# Altium footprint library 载板20220818.PcbLib: 53 footprints (part 2 of 4)
Each footprint in its own frame and in the unit in brackets; x right, y up, seen from the top. Pads: shape width x height; smd on the part's side, far side on the other; paste and mask are expansions set on the pad; w line width, h text height; cw(c..) or ccw(c..) is an arc to the next point about the centre after c.
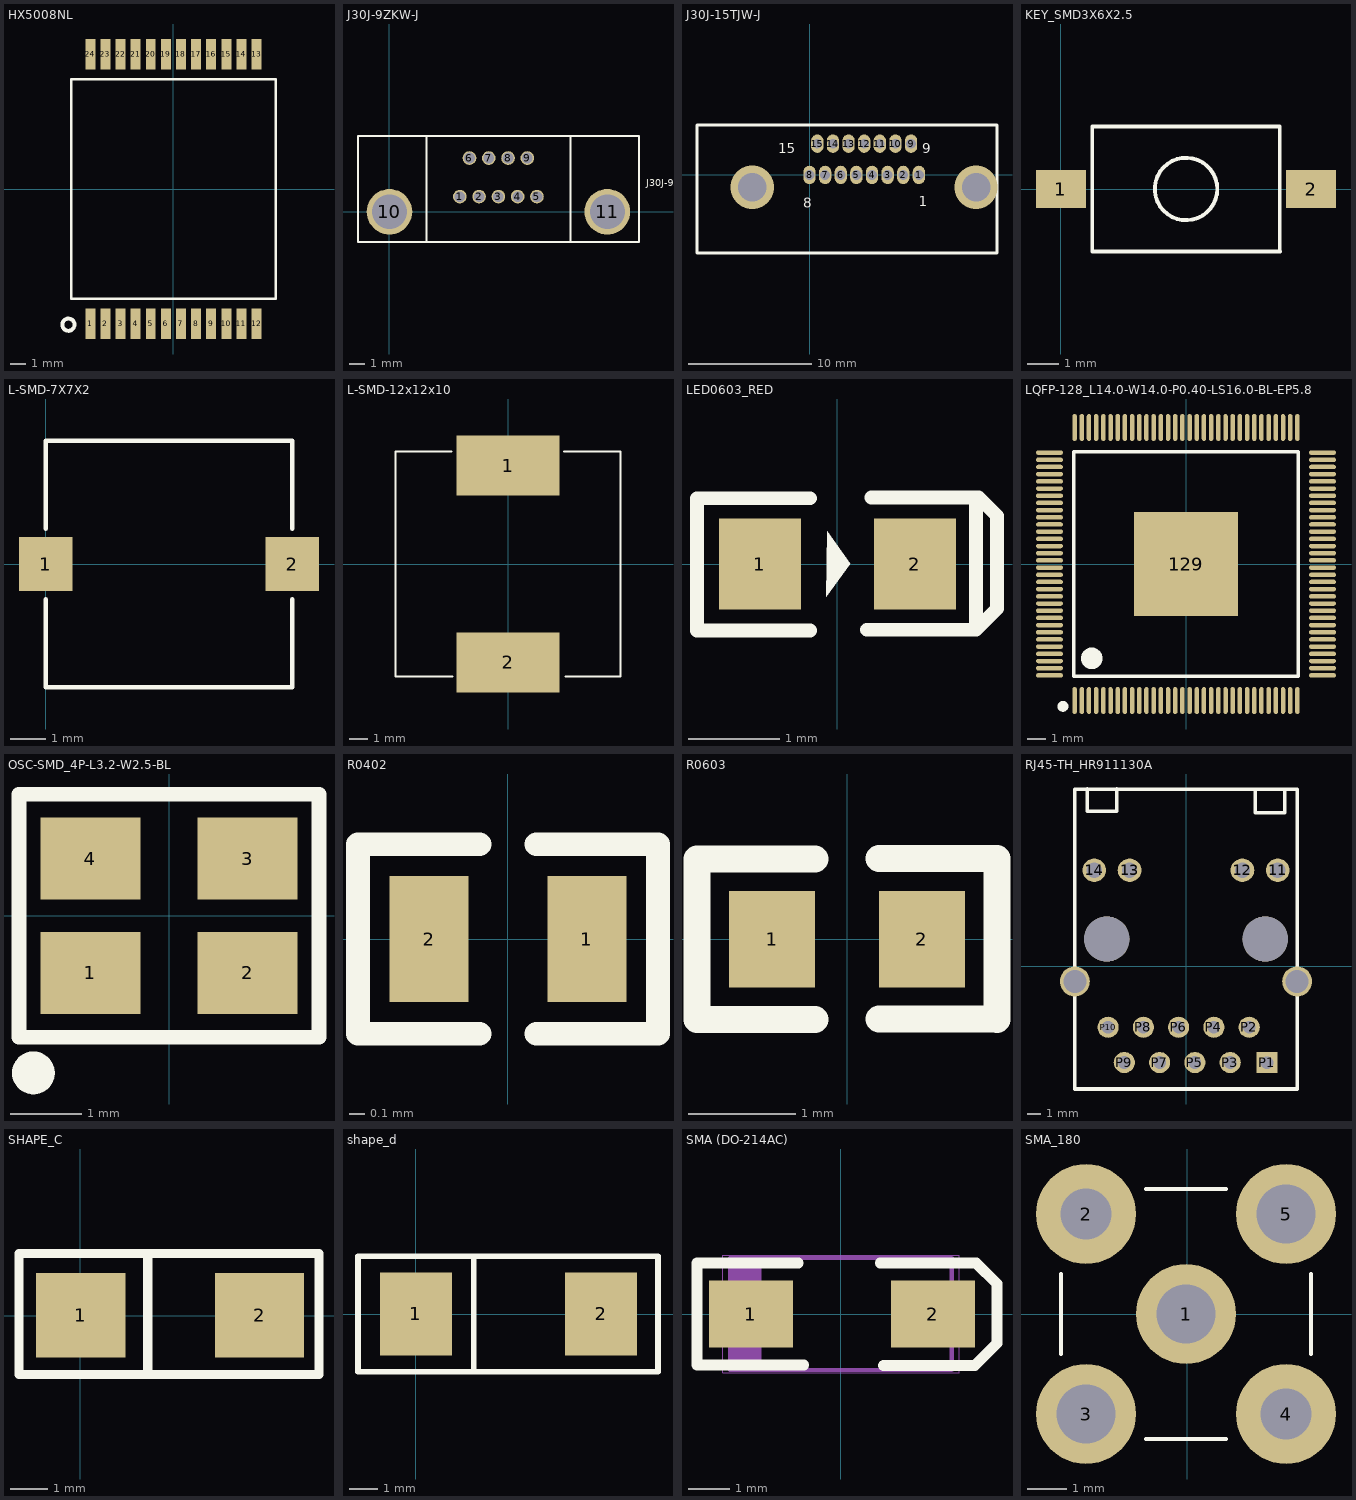
[diagram p1: the footprints below, top view; thin cyan lines are the x and y axes]

## HX5008NL [mm]
height 6
pads (24):
  rect 0.65x2 smd: 1(-5.445,-8.827) 2(-4.455,-8.827) 3(-3.465,-8.827) 4(-2.475,-8.827) 5(-1.485,-8.827) 6(-0.495,-8.827) 7(0.495,-8.827) 8(1.485,-8.827) 9(2.475,-8.827) 10(3.465,-8.827) 11(4.455,-8.827) 12(5.445,-8.827) 13(5.445,8.828) 14(4.455,8.828) 15(3.465,8.828) 16(2.475,8.828) 17(1.485,8.828) 18(0.495,8.828) 19(-0.495,8.828) 20(-1.485,8.828) 21(-2.475,8.828) 22(-3.465,8.828) 23(-4.455,8.828) 24(-5.445,8.828)
Top Overlay:
  circle w0.254: c-6.879,-8.89 r0.402
  lines w0.178: -6.7,-7.192 -6.7,7.192 6.7,7.192 6.7,-7.192 -6.7,-7.192

## J30J-9ZKW-J [mm] "弯式印制板插座"
pads (11):
  round 0.9 hole 0.7: 1(4.635,1) 2(5.905,1) 3(7.175,1) 4(8.445,1) 5(9.715,1) 6(5.27,3.54) 7(6.54,3.54) 8(7.81,3.54) 9(9.08,3.54)
  round 3 hole 2.3: 10(0,0) 11(14.35,0)
Top Overlay:
  lines w0.127: 2.4,4.995 -2.075,4.995 -2.075,-2 2.9,-2 11.925,-2 ; 2.425,-2 2.425,5 11.925,5 11.925,-2 ; 11.925,4.995 16.425,4.995 16.425,-2 11.925,-2
  text "J30J-9ZKW-J" at 16.929,1.508 h0.76

## J30J-15TJW-J [mm]
pads (15):
  oval 1x1.5 hole 0.8: 1(8.89,0) 2(7.62,0) 3(6.35,0) 4(5.08,0) 5(3.81,0) 6(2.54,0) 7(1.27,0) 8(0,0) 9(8.255,2.54) 10(6.985,2.54) 11(5.715,2.54) 12(4.445,2.54) 13(3.175,2.54) 14(1.905,2.54) 15(0.635,2.54)
via -4.655,-1 diameter 3.5 hole 2.3
via 13.545,-1 diameter 3.5 hole 2.3
Top Overlay:
  lines w0.254: -9.144,-6.35 15.24,-6.35 15.24,4.064 -9.144,4.064 -9.144,-6.35
  text "9" at 9.144,1.778 h0.8
  text "15" at -2.54,1.778 h0.8
  text "8" at -0.508,-2.667 h0.8
  text "1" at 8.89,-2.54 h0.8

## KEY_SMD3X6X2.5 [mm]
pads (2):
  rect 1.6x1.2 smd: 1(0,0) 2(8,0)
Top Overlay:
  circle w0.127: c4,0 r1
  lines w0.127: 1,-2 7.004,-2 7,-1.996 7,2 1,2 1,-2

## L-SMD-7X7X2 [mil]
height 47.24
pads (2):
  rect 60x60 smd: 1(0,0) 2(275.59,0)
Top Overlay:
  lines w5: 0,-39.37 0,-137.8 275.59,-137.8 275.59,-39.37 ; 0,39.37 0,137.8 275.59,137.8 275.59,39.37

## L-SMD-12x12x10 [mm]
pads (2):
  rect 5.5x3.2 smd: 1(0,5.25) 2(0,-5.25)
Top Overlay:
  lines w0.127: -3.028,6 -6,6 -6,-6 -2.977,-6 ; 3.003,6 6,6 6,-6 3.068,-6

## LED0603_RED [mm]
pads (2):
  rect 0.9x1 smd: 1(-0.85,0) 2(0.85,0)
Top Overlay:
  region: -0.11,0.36 -0.12,-0.36 0.14,0
  lines w0.15: -0.3,-0.73 -1.54,-0.73 -1.54,0.72 -0.3,0.72 ; 0.32,-0.72 1.52,-0.72 ; 0.37,0.73 1.52,0.73 ; 1.52,-0.72 1.52,0.73 ; 1.52,-0.72 1.72,-0.52 1.75,-0.49 1.75,0.53 1.55,0.73 1.52,0.73

## LQFP-128_L14.0-W14.0-P0.40-LS16.0-BL-EP5.8 [mm]
pads (129):
  oval 0.25x1.5 smd: 1(-6.2,-7.6) 2(-5.799,-7.6) 3(-5.4,-7.6) 4(-5.001,-7.6) 5(-4.6,-7.6) 6(-4.201,-7.6) 7(-3.8,-7.6) 8(-3.401,-7.6) 9(-3,-7.6) 10(-2.601,-7.6) 11(-2.2,-7.6) 12(-1.801,-7.6) 13(-1.4,-7.6) 14(-1.001,-7.6) 15(-0.599,-7.6) 16(-0.201,-7.6) 17(0.201,-7.6) 18(0.599,-7.6) 19(1.001,-7.6) 20(1.4,-7.6) 21(1.801,-7.6) 22(2.2,-7.6) 23(2.601,-7.6) 24(3,-7.6) 25(3.401,-7.6) 26(3.8,-7.6) 27(4.201,-7.6) 28(4.6,-7.6) 29(5.001,-7.6) 30(5.4,-7.6) 31(5.799,-7.6) 32(6.2,-7.6) 65(6.2,7.6) 66(5.799,7.6) 67(5.4,7.6) 68(5.001,7.6) 69(4.6,7.6) 70(4.201,7.6) 71(3.8,7.6) 72(3.401,7.6) 73(3,7.6) 74(2.601,7.6) 75(2.2,7.6) 76(1.801,7.6) 77(1.4,7.6) 78(1.001,7.6) 79(0.599,7.6) 80(0.201,7.6) 81(-0.201,7.6) 82(-0.599,7.6) 83(-1.001,7.6) 84(-1.4,7.6) 85(-1.801,7.6) 86(-2.2,7.6) 87(-2.601,7.6) 88(-3,7.6) 89(-3.401,7.6) 90(-3.8,7.6) 91(-4.201,7.6) 92(-4.6,7.6) 93(-5.001,7.6) 94(-5.4,7.6) 95(-5.799,7.6) 96(-6.2,7.6)
  oval 1.5x0.25 smd: 33(7.6,-6.2) 34(7.6,-5.799) 35(7.6,-5.4) 36(7.6,-5.001) 37(7.6,-4.6) 38(7.6,-4.201) 39(7.6,-3.8) 40(7.6,-3.401) 41(7.6,-3) 42(7.6,-2.601) 43(7.6,-2.2) 44(7.6,-1.801) 45(7.6,-1.4) 46(7.6,-1.001) 47(7.6,-0.599) 48(7.6,-0.201) 49(7.6,0.201) 50(7.6,0.599) 51(7.6,1.001) 52(7.6,1.4) 53(7.6,1.801) 54(7.6,2.2) 55(7.6,2.601) 56(7.6,3) 57(7.6,3.401) 58(7.6,3.8) 59(7.6,4.201) 60(7.6,4.6) 61(7.6,5.001) 62(7.6,5.4) 63(7.6,5.799) 64(7.6,6.2) 97(-7.6,6.2) 98(-7.6,5.799) 99(-7.6,5.4) 100(-7.6,5.001) 101(-7.6,4.6) 102(-7.6,4.201) 103(-7.6,3.8) 104(-7.6,3.401) 105(-7.6,3) 106(-7.6,2.601) 107(-7.6,2.2) 108(-7.6,1.801) 109(-7.6,1.4) 110(-7.6,1.001) 111(-7.6,0.599) 112(-7.6,0.201) 113(-7.6,-0.201) 114(-7.6,-0.599) 115(-7.6,-1.001) 116(-7.6,-1.4) 117(-7.6,-1.801) 118(-7.6,-2.2) 119(-7.6,-2.601) 120(-7.6,-3) 121(-7.6,-3.401) 122(-7.6,-3.8) 123(-7.6,-4.201) 124(-7.6,-4.6) 125(-7.6,-5.001) 126(-7.6,-5.4) 127(-7.6,-5.799) 128(-7.6,-6.2)
  rect 5.8x5.8 smd: 129(0,0)
Top Overlay:
  lines w0.2: -6.25,-6.25 6.25,-6.25 6.25,6.25 -6.25,6.25 -6.25,-6.25
  lines w0.3: -6.85,-7.775 ccw(c-6.849,-7.925) -6.848,-7.775
  lines w0.6: -5.25,-4.95 ccw(c-5.248,-5.25) -5.245,-4.95

## OSC-SMD_4P-L3.2-W2.5-BL [mm]
pads (4):
  rect 1.4x1.15 smd: 1(-1.1,-0.8) 2(1.1,-0.8) 3(1.1,0.8) 4(-1.1,0.8)
Top Overlay:
  lines w0.203: -2.1,-1.7 2.1,-1.7 2.1,1.7 -2.1,1.7 -2.1,-1.7
  lines w0.3: -1.9,-2.05 ccw(c-1.899,-2.2) -1.897,-2.05

## R0402 [mm]
pads (2):
  rect 0.5x0.8 smd: 1(0.5,0) 2(-0.5,0)
Top Overlay:
  lines w0.15: -0.18,-0.6 -0.95,-0.6 -0.95,0.6 -0.18,0.6 ; 0.18,-0.6 0.95,-0.6 0.95,0.6 0.18,0.6

## R0603 [mm]
pads (2):
  rect 0.8x0.9 smd: 1(-0.7,0) 2(0.7,0)
Top Overlay:
  lines w0.254: -1.401,-0.75 -0.3,-0.75 ; -1.401,0.75 -0.3,0.75 ; -1.4,-0.75 -1.4,0.75 ; 0.301,-0.745 1.401,-0.745 ; 0.301,0.755 1.401,0.755 ; 1.401,-0.75 1.401,0.75

## RJ45-TH_HR911130A [mil]
pads (18):
  round 66.93 hole 43.31: 11(260,272.62) 12(160,272.62) 13(-160,272.62) 14(-260,272.62)
  rect 60x60 hole 35.83: P1(229.63,-272.62)
  round 60 hole 35.83: P2(179.1,-172.38) P3(125.2,-272.38) P4(79.1,-172.38) P5(25.2,-272.38) P6(-20.9,-172.38) P7(-74.8,-272.38) P8(-120.9,-172.38) P9(-174.8,-272.38) P10(-220.9,-172.38)
  round 85 hole 65: SHIELD0(-315,-42.48) SHIELD1(315,-42.48)
  round 127.95 hole 127.95 unplated: ""(-224.4,77.62) ""(224.4,77.62)
Top Overlay:
  lines w10: -279.53,502.82 -279.53,439.82 -196.85,439.82 -196.85,471.32 -196.85,502.82 ; 196.82,498.88 196.82,435.88 279.5,435.88 279.5,467.38 279.5,498.88 ; -315,-347.38 -315,502.62 315,502.62 315,-347.38 -315,-347.38

## SHAPE_C [mil]
pads (2):
  rect 95x90 smd: 1(0.76,0.43) 2(190.76,0.43)
Top Overlay:
  lines w10: -65,-62.57 254,-62.57 254,66 -65,66 -65,-60 ; 72,-62.41 72,60

## shape_d [mil]
height 184.65
pads (2):
  rect 100x115 smd: 1(0.17,0.2) 2(256.17,0.2)
Top Overlay:
  lines w8: 80,-80 80,80 ; -80,-80 -80,80 335,80 335,-80 -80,-80

## SMA (DO-214AC) [mm]
height 3.2
pads (2):
  rect 2x1.6 smd: 1(-2.15,0) 2(2.2,0)
Top Overlay:
  lines w0.254: -1.016,1.22 -3.44,1.22 -3.44,-1.22 -0.889,-1.22 ; 0.94,1.22 3.23,1.22 3.73,0.72 3.73,-0.7 3.2,-1.23 1.016,-1.23
Mechanical 15:
  lines w0.1: -2.548,-1.335 -2.548,1.335 ; -2.448,-1.335 -2.448,1.335 ; -2.348,-1.335 -2.348,1.335 ; -2.248,-1.335 -2.248,1.335 ; -2.148,-1.335 -2.148,1.335 ; -2.047,-1.335 -2.047,1.335 ; -1.948,-1.335 -1.948,1.335 ; -2.648,-1.335 2.648,-1.335 2.648,1.335 -2.648,1.335 -2.648,-1.335
Mechanical 16:
  lines w0.001: -2.83,-1.4 2.83,-1.4 2.83,1.4 -2.83,1.4 -2.83,-1.4
3D body: height 2.44, standoff 0.16, extent -2.743,-1.397 2.743,1.397

## SMA_180 [mm]
pads (5):
  round 2.54 hole 1.5: 1(-0.025,0) 3(-2.565,-2.54) 5(2.515,2.54)
  round 2.54 hole 1.3: 2(-2.565,2.54) 4(2.515,-2.54)
Top Overlay:
  lines w0.1: -3.2,-1.016 -3.2,1.016 ; -1.041,-3.175 0.991,-3.175 ; -1.041,3.175 0.991,3.175 ; 3.15,-1.016 3.15,1.016